# Altium footprint library Resistors.PcbLib: 2 footprints
Each footprint in its own frame and in the unit in brackets; x right, y up, seen from the top. Pads: shape width x height; smd on the part's side, far side on the other; paste and mask are expansions set on the pad; w line width, h text height; cw(c..) or ccw(c..) is an arc to the next point about the centre after c.
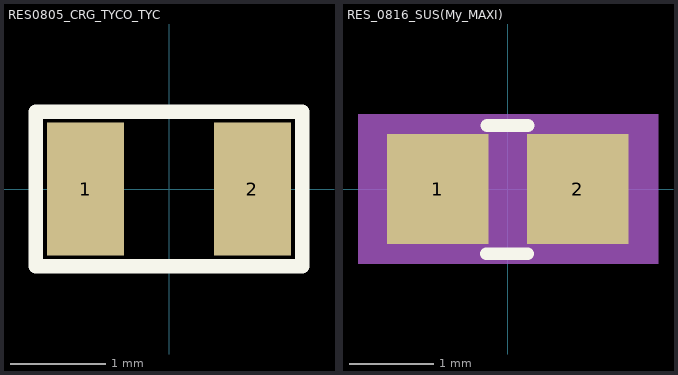
[diagram p0: the footprints below, top view; thin cyan lines are the x and y axes]

## RES0805_CRG_TYCO_TYC [mil]
pads (2):
  rect 32x55 smd paste+0 mask+0: 1(-34.5,0) 2(34.5,0)
Top Overlay:
  lines w6: -55,-32 55,-32 55,32 -55,32 -55,-32

## RES_0816_SUS(My_MAXI) [mm]
pads (2):
  rect 1.2x1.3 smd paste+0 mask+0: 1(-0.827,0) 2(0.827,0)
Top Overlay:
  lines w0.152: -0.251,-0.765 0.234,-0.765 ; -0.246,0.752 0.239,0.752
Mechanical 5:
  region: 1.775,-0.881 -1.768,-0.881 -1.768,0.881 1.775,0.881
Mechanical 13:
  lines w0.025: -0.9,-0.5 -0.9,0.5 ; -0.9,-0.5 -0.55,-0.5 -0.55,0.5 -0.9,0.5 ; -0.9,-0.5 0.9,-0.5 ; -0.9,-0.5 -0.9,0.5 ; -0.9,0.5 0.9,0.5 ; 0.9,-0.5 0.55,-0.5 0.55,0.5 0.9,0.5 ; 0.9,-0.5 0.9,0.5 ; 0.9,-0.5 0.9,0.5
Mechanical 15:
  region: 1.357,-0.754 -1.357,-0.754 -1.357,0.754 1.357,0.754
  lines w0.152: -1.357,-0.754 -1.357,0.754 1.357,0.754 1.357,-0.754 -1.357,-0.754
3D body: height 0.25, standoff 0, extent 0,0 0.254,0.254
3D body "RES_0816_SUS.step": height 0.55, standoff 0, extent -0.9,-0.5 0.9,0.5